# Altium schematic symbol library EPC2204.Schlib: 1 symbol
Pins are listed as number, name and electrical type; pins without a type are passive.

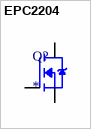
[diagram p0: symbol EPC2204]

## EPC2204
designator Q?
N-Channel 100 V 29A (Ta) - Surface Mount Die
pins: 1 G, 2 S, 3 D, 4 S, 5 D, 6 S